# Altium footprint library gini_base_pcb.PCBLIB: 175 footprints (part 10 of 11)
Each footprint in its own frame and in the unit in brackets; x right, y up, seen from the top. Pads: shape width x height; smd on the part's side, far side on the other; paste and mask are expansions set on the pad; w line width, h text height; cw(c..) or ccw(c..) is an arc to the next point about the centre after c.
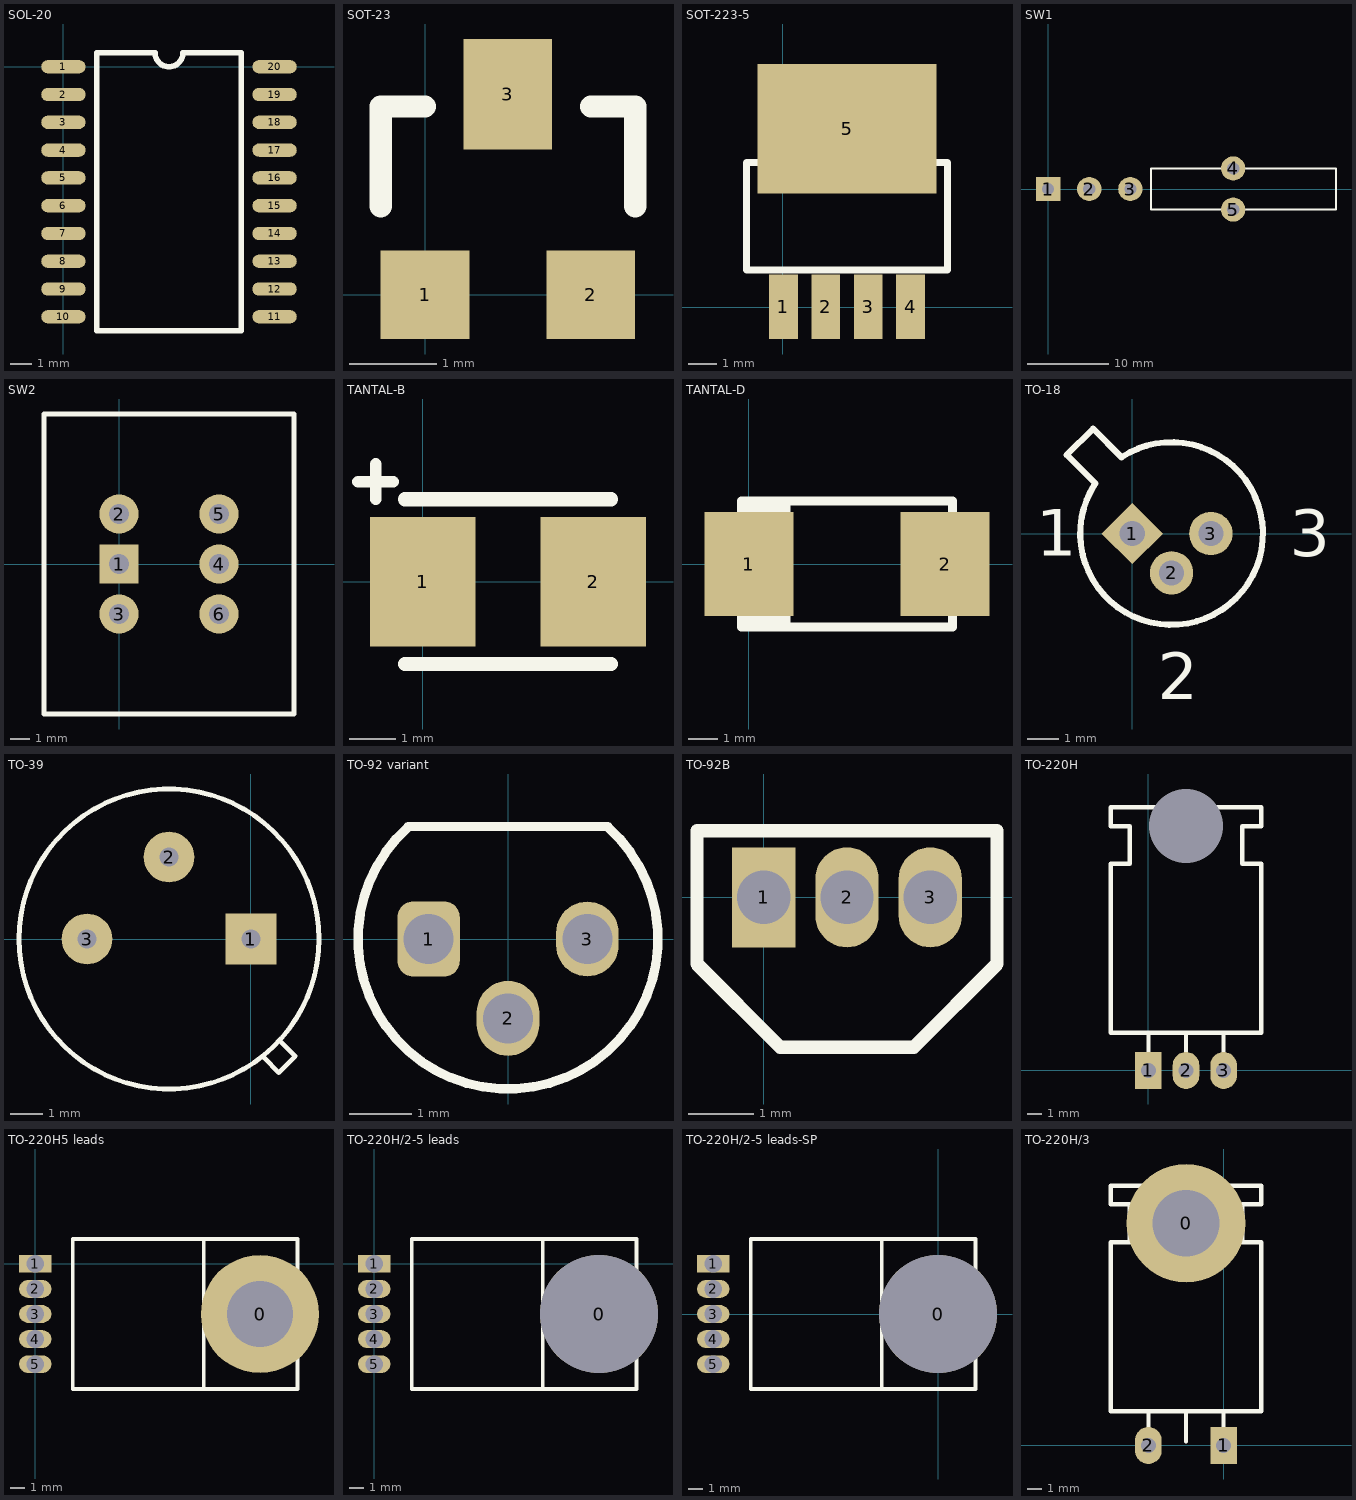
[diagram p9: the footprints below, top view; thin cyan lines are the x and y axes]

## SOL-20 [mil]
pads (20):
  oval 80x24 smd: 1(0,0) 2(0,-50) 3(0,-100) 4(0,-150) 5(0,-200) 6(0,-250) 7(0,-300) 8(0,-350) 9(0,-400) 10(0,-450) 11(380,-450) 12(380,-400) 13(380,-350) 14(380,-300) 15(380,-250) 16(380,-200) 17(380,-150) 18(380,-100) 19(380,-50) 20(380,0)
TopOverlay:
  lines w10: 60,-475 320,-475 320,25 215,25 cw(c190,25) 165,25 60,25 60,-475

## SOT-23 [mil]
pads (3):
  rect 40x40 smd: 1(0,0) 2(74.8,0)
  rect 40x50 smd: 3(37.4,90.55)
TopOverlay:
  lines w10: -20,40 -20,85 0,85 ; 75,85 95,85 95,40
3D body: height 39.11, standoff 0.26, extent -20.48,-2.16 94.48,98.16

## SOT-223-5 [mil]
pads (5):
  rect 40x90 smd: 1(1,1) 2(60.05,1) 3(119.11,1) 4(178.16,1)
  rect 250x180 smd: 5(89.58,249.03)
TopOverlay:
  lines w10: -50.45,52 229.55,52 229.55,202 -50.45,202 -50.45,52

## SW1 [mm]
pads (5):
  rect 3x3 hole 1.5: 1(0,0)
  round 3 hole 1.5: 2(5.08,0) 3(10.16,0) 4(22.86,2.54) 5(22.86,-2.54)
TopOverlay:
  lines w0.254: 12.7,-2.54 12.7,2.54 35.56,2.54 35.56,-2.54 12.7,-2.54

## SW2 [mm]
pads (6):
  rect 2x2 hole 1: 1(0,0)
  round 2 hole 1: 2(0,2.54) 3(0,-2.54) 4(5.08,0) 5(5.08,2.54) 6(5.08,-2.54)
TopOverlay:
  lines w0.254: -3.81,-7.62 -3.81,7.62 8.89,7.62 8.89,-7.62 -3.81,-7.62

## TANTAL-B [mil]
pads (2):
  rect 90x110 smd: 1(0,0) 2(145,0)
TopOverlay:
  lines w10: -55,85 -25,85 ; -40,70 -40,100
  lines w12: -15,-70 160,-70 ; -15,70 160,70

## TANTAL-D [mil]
pads (2):
  rect 120x140 smd: 1(0,0) 2(265,0)
TopOverlay:
  lines w12: 0,-85 0,85 ; 10,-85 10,85 ; 20,-85 20,85 ; 30,-85 30,85 ; 40,-85 40,85 ; 50,-85 50,85 ; -10,-85 -10,85 275,85 275,-85 -10,-85

## TO-18 [mm]
pads (3):
  rect 1.4x1.4 hole 0.813 rot 45: 1(0,0)
  round 1.4 hole 0.813: 2(1.27,-1.27) 3(2.54,0)
TopOverlay:
  lines w0.2: -2.116,2.537 -1.267,3.386 -0.348,2.467 cw(c1.27,0) -1.197,1.618 -2.116,2.537
  text "1" at -3.11,-0.719 h1.5
  text "2" at 0.827,-5.355 h1.5
  text "3" at 5.082,-0.742 h1.5

## TO-39 [mil]
pads (3):
  rect 62x62 hole 23.62: 1(0,0)
  round 62 hole 23.62: 2(-100,100) 3(-200,0)
TopOverlay:
  circle w5.91: c-100,0 r183.07
  lines w5.91: 16,-145 34,-163 54,-143 36,-125
3D body: height 263.78, standoff -461.42, extent -285.03,-185.03 84.52,185.05

## TO-92 variant [mm]
pads (3):
  rrect50% 1x1.2 hole 0.8: 1(-1.27,0)
  oval 1x1.2 hole 0.8: 2(0,-1.27) 3(1.27,0)
TopOverlay:
  lines w0.15: -1.595,1.794 ccw(c0,0) 1.595,1.794 ; -1.595,1.8 1.595,1.8

## TO-92B [mil]
pads (3):
  rect 38x60 hole 32: 1(0,0)
  oval 38x60 hole 32: 2(50,0) 3(100,0)
TopOverlay:
  lines w8: -40,-40 -40,40 140,40 140,-40 90,-90 10,-90 -40,-40

## TO-220H [mm]
pads (4):
  rect 1.8x2.5 hole 1: 1(0,0)
  oval 1.8x2.5 hole 1: 2(2.54,0) 3(5.08,0)
  round 0 hole 5: ""(2.54,16.51)
TopOverlay:
  lines w0.254: 0,0.508 0,2.54 ; 2.54,0.508 2.54,2.54 ; 5.08,0.508 5.08,2.54
  lines w0.305: -2.54,2.54 -2.54,13.97 -1.27,13.97 -1.27,16.51 -2.54,16.51 -2.54,17.78 7.62,17.78 7.62,16.51 6.35,16.51 6.35,13.97 7.62,13.97 7.62,2.54 -2.54,2.54

## TO-220H5 leads [mm]
pads (6):
  round 8 hole 4.5: 0(15.24,-3.4)
  rect 2.2x1.2 hole 1.2: 1(0,0)
  oval 2.2x1.2 hole 1.2: 2(0,-1.7) 3(0,-3.4) 4(0,-5.1) 5(0,-6.8)
TopOverlay:
  lines w0.254: 11.43,-8.48 11.43,1.68 ; 2.54,-8.48 17.78,-8.48 17.78,1.68 2.54,1.68 2.54,-8.48

## TO-220H/2-5 leads [mm]
pads (6):
  round 8 hole 8: 0(15.24,-3.4)
  rect 2.2x1.2 hole 1.2: 1(0,0)
  oval 2.2x1.2 hole 1.2: 2(0,-1.7) 3(0,-3.4) 4(0,-5.1) 5(0,-6.8)
TopOverlay:
  lines w0.254: 11.43,-8.48 11.43,1.68 ; 2.54,-8.48 17.78,-8.48 17.78,1.68 2.54,1.68 2.54,-8.48

## TO-220H/2-5 leads-SP [mm]
pads (6):
  round 8 hole 8: 0(0,0)
  rect 2.2x1.2 hole 1.2: 1(-15.24,3.4)
  oval 2.2x1.2 hole 1.2: 2(-15.24,1.7) 3(-15.24,0) 4(-15.24,-1.7) 5(-15.24,-3.4)
TopOverlay:
  lines w0.254: -3.81,-5.08 -3.81,5.08 ; -12.7,-5.08 -12.7,5.08 2.54,5.08 2.54,-5.08 -12.7,-5.08

## TO-220H/3 [mm]
pads (3):
  round 8 hole 4.5: 0(-2.54,15)
  rect 1.8x2.5 hole 1: 1(0,0)
  oval 1.8x2.5 hole 1: 2(-5.08,0)
TopOverlay:
  lines w0.254: -5.08,0.268 -5.08,2.3 ; -2.54,0.268 -2.54,2.3 ; 0,0.268 0,2.3
  lines w0.305: -7.62,2.3 -7.62,13.73 -6.35,13.73 -6.35,16.27 -7.62,16.27 -7.62,17.54 2.54,17.54 2.54,16.27 1.27,16.27 1.27,13.73 2.54,13.73 2.54,2.3 -7.62,2.3